# Altium integrated library Amplificadores de audio.IntLib: 1 symbol
Pins are listed as number, name and electrical type; pins without a type are passive.

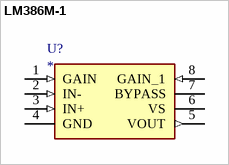
[diagram p0: symbol LM386M-1]

## LM386M-1
designator U?
ComponentLink1Description: mouser; ComponentLink1URL: https://www.mouser.es/ProductDetail/Texas-Instruments/LM386M-1-NOPB?qs=QbsRYf82W3GaJvrwUmrW3g%3D%3D; datasheet: https://www.ti.com/general/docs/suppproductinfo.tsp?distId=26&gotoUrl=http%3A%2F%2Fwww.ti.com%2Flit%2Fgpn%2FLM386
footprint SOIC127P600X175-8N
pins: 1 GAIN (in), 2 IN- (in), 3 IN+ (in), 4 GND (power), 5 VOUT (out), 6 VS, 7 BYPASS, 8 GAIN_1 (in)